# Altium schematic symbol library SCH - POWER - LINEAR VREG - DIODES INC AP2138 3PIN.SCHLIB: 1 symbol
Pins are listed as number, name and electrical type; pins without a type are passive.

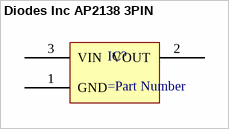
[diagram p0: symbol Diodes Inc AP2138 3PIN]

## Diodes Inc AP2138 3PIN
designator IC?
150mA Low quiescent current fast transient low drop out linear regulator
pins: 1 GND, 2 VOUT, 3 VIN